# EAGLE library part 74HC595 (library pimoroni-ics)
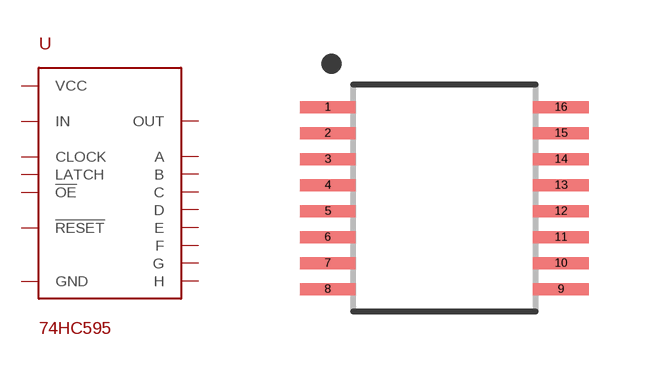
[diagram p161: symbol with the pads of TSSOP-16; footprint TSSOP-16]

Designator prefix -

## 74HC595  [TSSOP-16]
1  B
2  C
3  D
4  E
5  F
6  G
7  H
8  GND
9  OUT
10  !RESET
11  CLOCK
12  LATCH
13  !OE
14  IN
15  A
16  VCC

## Footprint TSSOP-16 (pad centres in mm)
smd 1.4 x 0.3: 1 -2.918,2.275; 2 -2.918,1.625; 3 -2.918,0.975; 4 -2.918,0.325; 5 -2.918,-0.325; 6 -2.918,-0.975; 7 -2.918,-1.625; 8 -2.918,-2.275; 9 2.918,-2.275; 10 2.918,-1.625; 11 2.918,-0.975; 12 2.918,-0.325; 13 2.918,0.325; 14 2.918,0.975; 15 2.918,1.625; 16 2.918,2.275